# EAGLE library part MCP2551 (library glados)
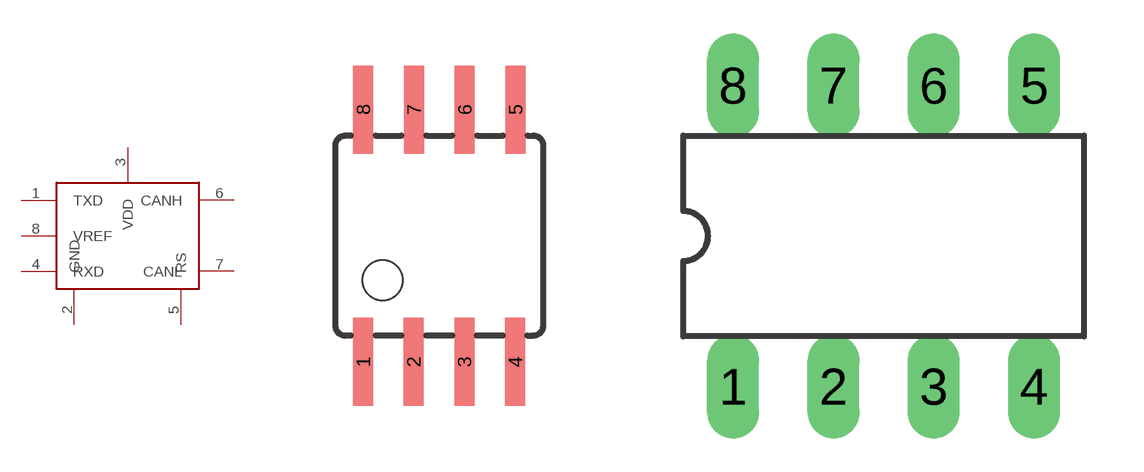
[diagram p0: symbol with the pads of SOIC8; footprints SOIC8, DIL8]

Designator prefix -

## MCP2551SOIC8  [SOIC8]
1  TXD
2  GND
3  VDD
4  RXD
5  RS
6  CANH
7  CANL
8  VREF

## MCP2551DIL8  [DIL8]
1  TXD
2  GND
3  VDD
4  RXD
5  VREF
6  CANL
7  CANH
8  RS

## Footprint SOIC8 (pad centres in mm)
Wide Plastic Gull Wing Small Outline Package
smd 0.5 x 2.2: 1 -1.905,-3.154; 2 -0.645,-3.154; 3 0.625,-3.154; 4 1.895,-3.154; 5 1.905,3.154; 6 0.635,3.154; 7 -0.635,3.154; 8 -1.905,3.154

## Footprint DIL8 (pad centres in mm)
Dual In Line package type P
drill 0.813 long: 1 -3.81,-3.81; 2 -1.27,-3.81; 3 1.27,-3.81; 4 3.81,-3.81; 5 3.81,3.81; 6 1.27,3.81; 7 -1.27,3.81; 8 -3.81,3.81